# Altium schematic symbol library RC_sch.SchLib: 5 symbols
Pins are listed as number, name and electrical type; pins without a type are passive.

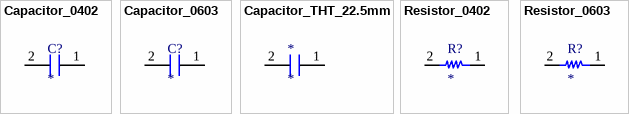
[diagram p0: symbols Capacitor_0402 to Resistor_0603]

## Capacitor_0402
designator C?
Value: 1 nF; Format: 0402; Package: 0402
footprint 0402_fp
pins: 1, 2

## Capacitor_0603
designator C?
Value: 1 nF; Format: 0402; Package: 0402
footprint 0603_FP
pins: 1, 2

## Capacitor_THT_22.5mm
designator *
footprint 22,5mm_CAP
pins: 1, 2

## Resistor_0402
designator R?
Value: 0 Ohm; Format: 0402; Package: 0402
footprint 0402_fp
pins: 1, 2

## Resistor_0603
designator R?
Value: 0 Ohm; Format: 0402; Package: 0402
footprint 0603_FP
pins: 1, 2